# Altium footprint library DIODE_R6.PcbLib: 1 footprints
Each footprint in its own frame and in the unit in brackets; x right, y up, seen from the top. Pads: shape width x height; smd on the part's side, far side on the other; paste and mask are expansions set on the pad; w line width, h text height; cw(c..) or ccw(c..) is an arc to the next point about the centre after c.
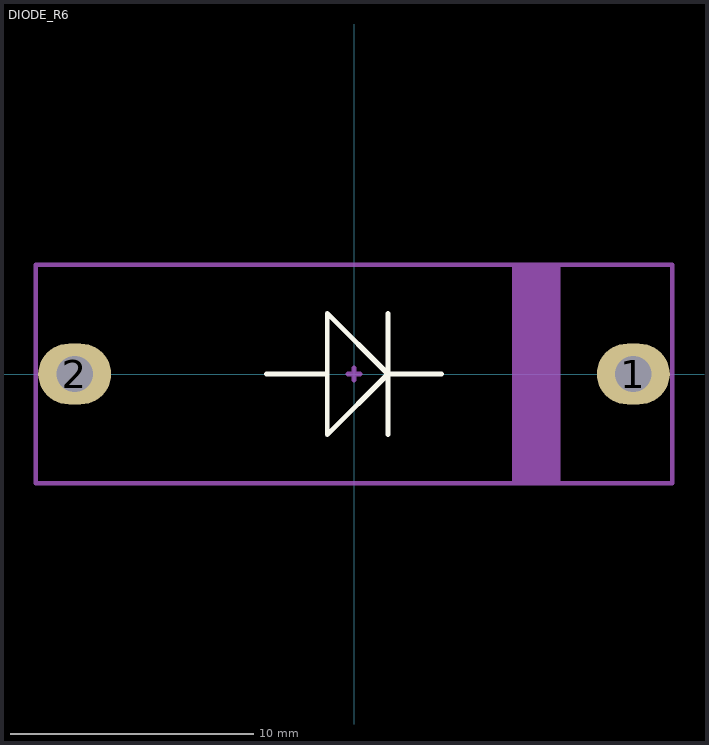
[diagram p0: the footprint, top view; thin cyan lines are the x and y axes]

## DIODE_R6 [mm]
height 0.95
pads (2):
  oval 3x2.5 hole 1.5: 1(11.5,0) 2(-11.5,0)
Top Overlay:
  lines w0.2: -3.6,0 -1.2,0 ; 1.4,-2.5 1.4,2.5 ; 3.6,0 1.4,0 ; 1.4,0 -1.1,2.5 -1.1,1.3 -1.1,-2.5 1.4,0
Top Assembly:
  rectangle: 6.5,-4.4 8.5,4.5
  lines w0.2: -0.25,-0.007 0.25,-0.007 ; 0,-0.257 0,0.243 ; -13.1,-4.5 -13.1,4.5 13.1,4.5 13.1,-4.5 -13.1,-4.5
  text "'.Designator'" at -0.925,-0.325 h0.7
3D body "User Library-Diode R-6 diameter 900mils.STEP": height 10.56, standoff -2, extent -12.08,-4.56 12.08,4.56